# EAGLE library part INA260 (library Adafruit_Modules)
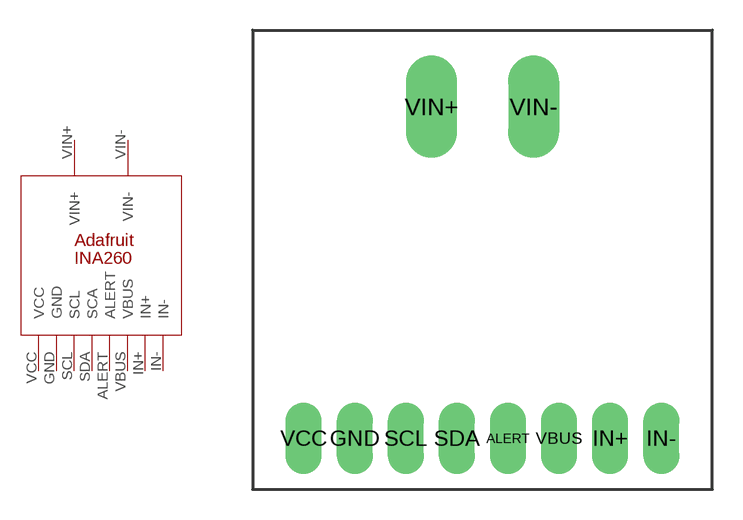
[diagram p0: symbol with the pads of INA260; footprint INA260]

Designator prefix INA260

## INA260  [INA260]
ALERT  ALERT
GND  GND
IN+  IN+
IN-  IN-
SCL  SCL
SDA  SCA
VBUS  VBUS
VCC  VCC
VIN+  VIN+
VIN-  VIN-

## Footprint INA260 (pad centres in mm)
drill 0.9 pad 1.778 long: ALERT 1.27,-8.89; GND -6.35,-8.89; IN+ 6.35,-8.89; IN- 8.89,-8.89; SCL -3.81,-8.89; SDA -1.27,-8.89; VBUS 3.81,-8.89; VCC -8.89,-8.89
drill 1.016 pad 2.54 long: VIN+ -2.54,7.62; VIN- 2.54,7.62